# Altium integrated library Vitesse Ethernet.IntLib: 2 symbols
Pins are listed as number, name and electrical type; pins without a type are passive.

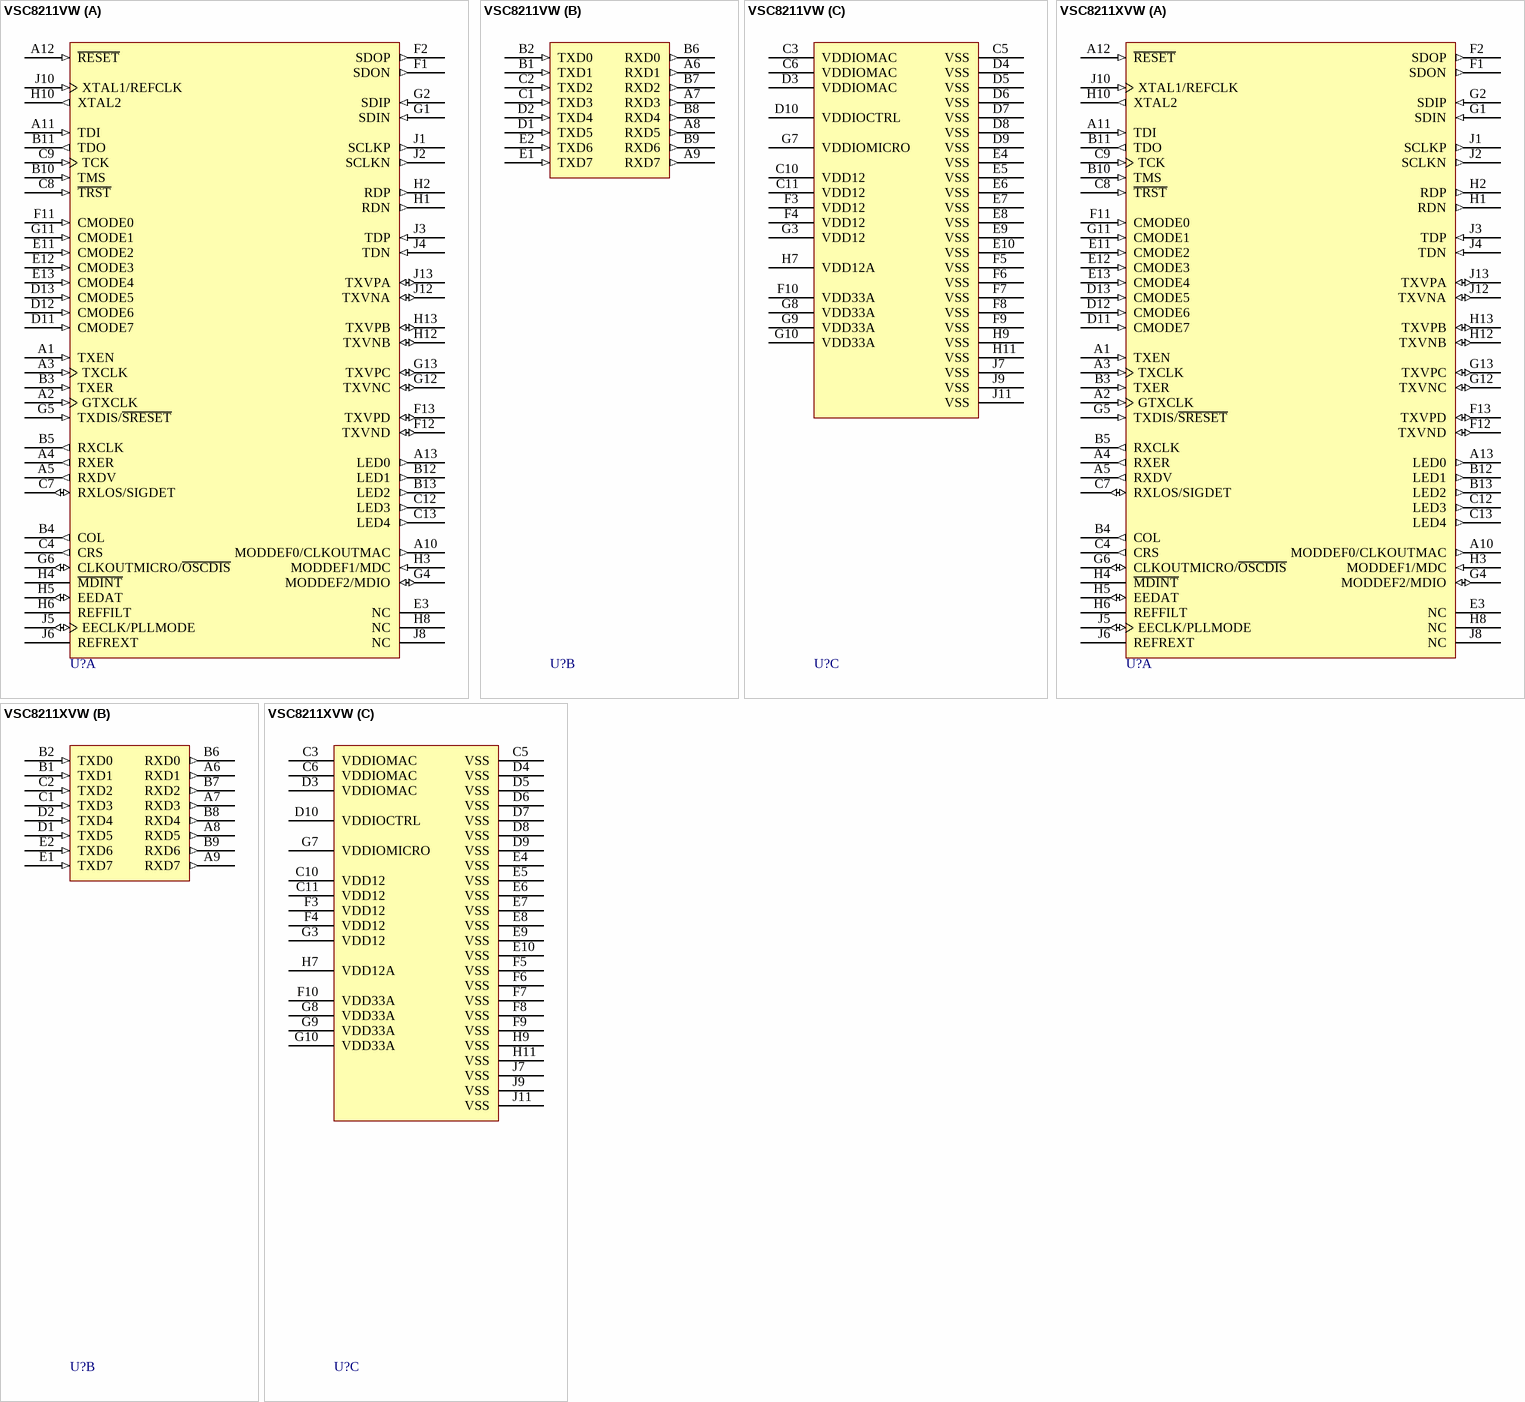
[diagram p0: symbols VSC8211VW to VSC8211XVW]

## VSC8211VW
designator U?
Single Port, Low-Power, Triple-Speed PHY with GMII/MII, RGMII, TBI, RTBI, SGMII & SerDes Interfaces; Published: 26-Sep-2008; DatasheetVersion: rev4.1, Oct-2006; PackageVersion: Oct-2006; PackageReference: LBGA117; Publisher: Altium Limited; PackageDescription: 117-Ball Laminate Ball Grid Array Rectangular 1 mm Pitch; ComponentLink1Description: Manufacturer Link; ComponentLink1URL: http://www.vitesse.com/; ComponentLink2Description: Datasheet; ComponentLink2URL: http://www.vitesse.com/products/download.php?fid=118&number=VSC8211
footprint LBGA117 (BGA, 117-Leads, Body 10x14mm, Pitch 1mm)
part A pins: A1 TXEN (in), A2 GTXCLK (in), A3 TXCLK (in), A4 RXER (out), A5 RXDV (out), A10 MODDEF0/CLKOUTMAC (out), A11 TDI (in), A12 ~{RESET} (in), A13 LED0 (out), B3 TXER (in), B4 COL (out), B5 RXCLK (out), B10 TMS (in), B11 TDO (out), B12 LED1 (out), B13 LED2 (out), C4 CRS (out), C7 RXLOS/SIGDET (io), C8 ~{TRST} (in), C9 TCK (in), C12 LED3 (out), C13 LED4 (out), D11 CMODE7 (in), D12 CMODE6 (in), D13 CMODE5 (in), E3 NC, E11 CMODE2 (in), E12 CMODE3 (in), E13 CMODE4 (in), F1 SDON (out), F2 SDOP (out), F11 CMODE0 (in), F12 TXVND (io), F13 TXVPD (io), G1 SDIN (in), G2 SDIP (in), G4 MODDEF2/MDIO (io), G5 TXDIS/~{SRESET} (in), G6 CLKOUTMICRO/~{OSCDIS} (io), G11 CMODE1 (in), G12 TXVNC (io), G13 TXVPC (io), H1 RDN (out), H2 RDP (out), H3 MODDEF1/MDC (in), H4 ~{MDINT} (oc), H5 EEDAT (io), H6 REFFILT, H8 NC, H10 XTAL2 (out), H12 TXVNB (io), H13 TXVPB (io), J1 SCLKP (out), J2 SCLKN (out), J3 TDP (in), J4 TDN (in), J5 EECLK/PLLMODE (io), J6 REFREXT, J8 NC, J10 XTAL1/REFCLK (in), J12 TXVNA (io), J13 TXVPA (io)
part B pins: A6 RXD1 (out), A7 RXD3 (out), A8 RXD5 (out), A9 RXD7 (out), B1 TXD1 (in), B2 TXD0 (in), B6 RXD0 (out), B7 RXD2 (out), B8 RXD4 (out), B9 RXD6 (out), C1 TXD3 (in), C2 TXD2 (in), D1 TXD5 (in), D2 TXD4 (in), E1 TXD7 (in), E2 TXD6 (in)
part C pins: C3 VDDIOMAC (power), C5 VSS (power), C6 VDDIOMAC (power), C10 VDD12 (power), C11 VDD12 (power), D3 VDDIOMAC (power), D4 VSS (power), D5 VSS (power), D6 VSS (power), D7 VSS (power), D8 VSS (power), D9 VSS (power), D10 VDDIOCTRL (power), E4 VSS (power), E5 VSS (power), E6 VSS (power), E7 VSS (power), E8 VSS (power), E9 VSS (power), E10 VSS (power), F3 VDD12 (power), F4 VDD12 (power), F5 VSS (power), F6 VSS (power), F7 VSS (power), F8 VSS (power), F9 VSS (power), F10 VDD33A (power), G3 VDD12 (power), G7 VDDIOMICRO (power), G8 VDD33A (power), G9 VDD33A (power), G10 VDD33A (power), H7 VDD12A (power), H9 VSS (power), H11 VSS (power), J7 VSS (power), J9 VSS (power), J11 VSS (power)

## VSC8211XVW
designator U?
Single Port, Low-Power, Triple-Speed PHY with GMII/MII, RGMII, TBI, RTBI, SGMII & SerDes Interfaces, Pb-Free; Published: 26-Sep-2008; DatasheetVersion: rev4.1, Oct-2006; PackageVersion: Oct-2006; PackageReference: LBGA117; Publisher: Altium Limited; PackageDescription: 117-Ball Laminate Ball Grid Array Rectangular 1 mm Pitch; ComponentLink1Description: Manufacturer Link; ComponentLink1URL: http://www.vitesse.com/; ComponentLink2Description: Datasheet; ComponentLink2URL: http://www.vitesse.com/products/download.php?fid=118&number=VSC8211
footprint LBGA117 (BGA, 117-Leads, Body 10x14mm, Pitch 1mm)
part A pins: A1 TXEN (in), A2 GTXCLK (in), A3 TXCLK (in), A4 RXER (out), A5 RXDV (out), A10 MODDEF0/CLKOUTMAC (out), A11 TDI (in), A12 ~{RESET} (in), A13 LED0 (out), B3 TXER (in), B4 COL (out), B5 RXCLK (out), B10 TMS (in), B11 TDO (out), B12 LED1 (out), B13 LED2 (out), C4 CRS (out), C7 RXLOS/SIGDET (io), C8 ~{TRST} (in), C9 TCK (in), C12 LED3 (out), C13 LED4 (out), D11 CMODE7 (in), D12 CMODE6 (in), D13 CMODE5 (in), E3 NC, E11 CMODE2 (in), E12 CMODE3 (in), E13 CMODE4 (in), F1 SDON (out), F2 SDOP (out), F11 CMODE0 (in), F12 TXVND (io), F13 TXVPD (io), G1 SDIN (in), G2 SDIP (in), G4 MODDEF2/MDIO (io), G5 TXDIS/~{SRESET} (in), G6 CLKOUTMICRO/~{OSCDIS} (io), G11 CMODE1 (in), G12 TXVNC (io), G13 TXVPC (io), H1 RDN (out), H2 RDP (out), H3 MODDEF1/MDC (in), H4 ~{MDINT} (oc), H5 EEDAT (io), H6 REFFILT, H8 NC, H10 XTAL2 (out), H12 TXVNB (io), H13 TXVPB (io), J1 SCLKP (out), J2 SCLKN (out), J3 TDP (in), J4 TDN (in), J5 EECLK/PLLMODE (io), J6 REFREXT, J8 NC, J10 XTAL1/REFCLK (in), J12 TXVNA (io), J13 TXVPA (io)
part B pins: A6 RXD1 (out), A7 RXD3 (out), A8 RXD5 (out), A9 RXD7 (out), B1 TXD1 (in), B2 TXD0 (in), B6 RXD0 (out), B7 RXD2 (out), B8 RXD4 (out), B9 RXD6 (out), C1 TXD3 (in), C2 TXD2 (in), D1 TXD5 (in), D2 TXD4 (in), E1 TXD7 (in), E2 TXD6 (in)
part C pins: C3 VDDIOMAC (power), C5 VSS (power), C6 VDDIOMAC (power), C10 VDD12 (power), C11 VDD12 (power), D3 VDDIOMAC (power), D4 VSS (power), D5 VSS (power), D6 VSS (power), D7 VSS (power), D8 VSS (power), D9 VSS (power), D10 VDDIOCTRL (power), E4 VSS (power), E5 VSS (power), E6 VSS (power), E7 VSS (power), E8 VSS (power), E9 VSS (power), E10 VSS (power), F3 VDD12 (power), F4 VDD12 (power), F5 VSS (power), F6 VSS (power), F7 VSS (power), F8 VSS (power), F9 VSS (power), F10 VDD33A (power), G3 VDD12 (power), G7 VDDIOMICRO (power), G8 VDD33A (power), G9 VDD33A (power), G10 VDD33A (power), H7 VDD12A (power), H9 VSS (power), H11 VSS (power), J7 VSS (power), J9 VSS (power), J11 VSS (power)